# EAGLE library part 686106183822 (library Eagle_FPC_CONNECTOR_AND_FFC_CAB (rev18c))
686106183822 WR-FPC 1.00mm SMT ZIF Vertical Type A <http://katalog.we-online.de/media/images/v2/Family_WR-FPC_6861xx183822.jpg> Details see: http://katalog.we-online.de/en/em/FPC_1_00_SMT_ZIF_VERTICAL_TYPE_A_6861xx183822 Created by Yingchun,shan 2016 (C) Wurth Elektronik
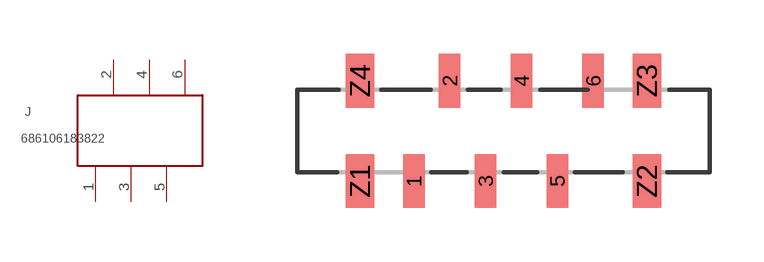
[diagram p165: symbol with the pads of 686106183822; footprint 686106183822]

Designator prefix J

## 686106183822  [686106183822]
1  1  pas
2  2  pas
3  3  pas
4  4  pas
5  5  pas
6  6  pas

## Footprint 686106183822 (pad centres in mm)
smd 0.6 x 1.5: 1 -2.5,-1.4; 2 -1.5,1.4; 3 -0.5,-1.4; 4 0.5,1.4; 5 1.5,-1.4; 6 2.5,1.4
smd 0.8 x 1.5: Z1 -4,-1.4; Z2 4,-1.4; Z3 4,1.4; Z4 -4,1.4